# Altium schematic symbol library Cap Y2X.Schlib: 1 symbol
Pins are listed as number, name and electrical type; pins without a type are passive.

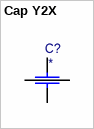
[diagram p0: symbol Cap Y2X]

## Cap Y2X
designator C?
Capacitor - Y2X
footprint 0805_X2Y
pins: 1 A, 2 B, 3 G1, 4 G2